# Altium schematic symbol library cap_arr_4_np.Schlib: 1 symbol
Pins are listed as number, name and electrical type; pins without a type are passive.

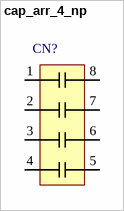
[diagram p0: symbol cap_arr_4_np]

## cap_arr_4_np
designator CN?  (value not drawn)
4 element capacitor array
pins: 1, 2, 3, 4, 5, 6, 7, 8